# Altium footprint library faston.PcbLib: 2 footprints
Each footprint in its own frame and in the unit in brackets; x right, y up, seen from the top. Pads: shape width x height; smd on the part's side, far side on the other; paste and mask are expansions set on the pad; w line width, h text height; cw(c..) or ccw(c..) is an arc to the next point about the centre after c.

## FON6.35_M_(TYPE 1266) [mm]
3D body: height 11.36, standoff -1.34, extent -13.342,-0.429 6.718,0.381

## FON6.35_M_(TYPE 1289) [mm]
3D body: height 16.2, standoff -2.79, extent -0.546,-4.745 0.254,3.175